# Altium footprint library 430450211.PcbLib: 1 footprints
Each footprint in its own frame and in the unit in brackets; x right, y up, seen from the top. Pads: shape width x height; smd on the part's side, far side on the other; paste and mask are expansions set on the pad; w line width, h text height; cw(c..) or ccw(c..) is an arc to the next point about the centre after c.
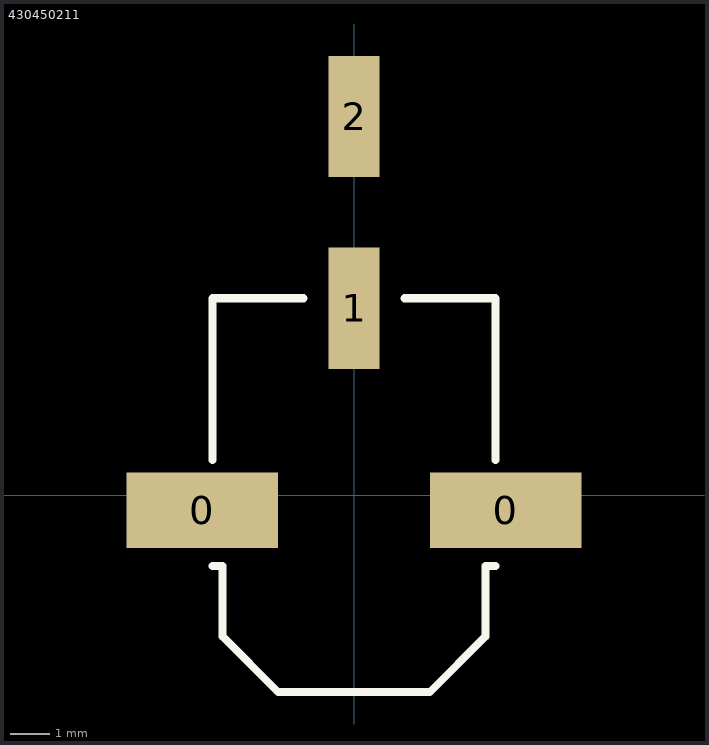
[diagram p0: the footprint, top view; thin cyan lines are the x and y axes]

## 430450211 [mil]
pads (4):
  rect 150x75 smd: 0(-150,-15) 0(150,-15)
  rect 50x120 smd: 1(0,185) 2(0,375)
Top Overlay:
  lines w8: -140,-70 -130,-70 -130,-140 -75,-195 0,-195 75,-195 130,-140 130,-70 140,-70 ; -140,35 -140,195 -50,195 ; 50,195 140,195 140,35
3D body: height 345.35, standoff 0.08, extent -209.64,-194.88 209.65,411.42